# Altium schematic symbol library SN74LVC157APWR.Schlib: 1 symbol
Pins are listed as number, name and electrical type; pins without a type are passive.

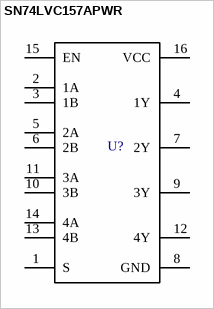
[diagram p0: symbol SN74LVC157APWR]

## SN74LVC157APWR
designator U?  (value not drawn)
pins: 1 S, 2 1A, 3 1B, 4 1Y, 5 2A, 6 2B, 7 2Y, 8 GND, 9 3Y, 10 3B, 11 3A, 12 4Y, 13 4B, 14 4A, 15 EN, 16 VCC